# Altium footprint library LQFP-64_7x7x04P.PcbLib: 1 footprints
Each footprint in its own frame and in the unit in brackets; x right, y up, seen from the top. Pads: shape width x height; smd on the part's side, far side on the other; paste and mask are expansions set on the pad; w line width, h text height; cw(c..) or ccw(c..) is an arc to the next point about the centre after c.
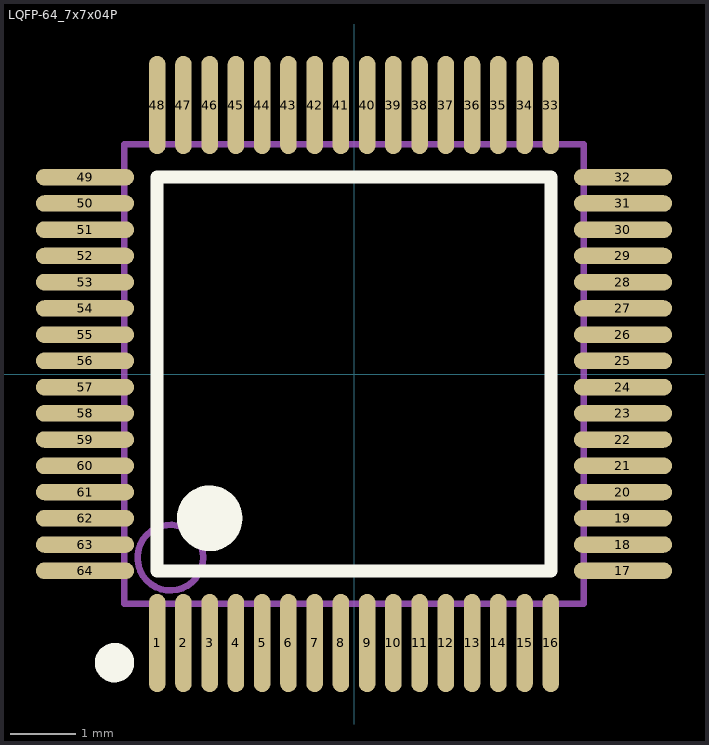
[diagram p0: the footprint, top view; thin cyan lines are the x and y axes]

## LQFP-64_7x7x04P [mm]
pads (64):
  oval 0.25x1.5 smd mask+0.051: 1(-3,-4.1) 2(-2.6,-4.1) 3(-2.2,-4.1) 4(-1.8,-4.1) 5(-1.4,-4.1) 6(-1,-4.1) 7(-0.6,-4.1) 8(-0.2,-4.1) 9(0.2,-4.1) 10(0.6,-4.1) 11(1,-4.1) 12(1.4,-4.1) 13(1.8,-4.1) 14(2.2,-4.1) 15(2.6,-4.1) 16(3,-4.1) 33(3,4.1) 34(2.6,4.1) 35(2.2,4.1) 36(1.8,4.1) 37(1.4,4.1) 38(1,4.1) 39(0.6,4.1) 40(0.2,4.1) 41(-0.2,4.1) 42(-0.6,4.1) 43(-1,4.1) 44(-1.4,4.1) 45(-1.8,4.1) 46(-2.2,4.1) 47(-2.6,4.1) 48(-3,4.1)
  oval 1.5x0.25 smd mask+0.051: 17(4.1,-3) 18(4.1,-2.6) 19(4.1,-2.2) 20(4.1,-1.8) 21(4.1,-1.4) 22(4.1,-1) 23(4.1,-0.6) 24(4.1,-0.2) 25(4.1,0.2) 26(4.1,0.6) 27(4.1,1) 28(4.1,1.4) 29(4.1,1.8) 30(4.1,2.2) 31(4.1,2.6) 32(4.1,3) 49(-4.1,3) 50(-4.1,2.6) 51(-4.1,2.2) 52(-4.1,1.8) 53(-4.1,1.4) 54(-4.1,1) 55(-4.1,0.6) 56(-4.1,0.2) 57(-4.1,-0.2) 58(-4.1,-0.6) 59(-4.1,-1) 60(-4.1,-1.4) 61(-4.1,-1.8) 62(-4.1,-2.2) 63(-4.1,-2.6) 64(-4.1,-3)
Top Overlay:
  circle w0.3: c-3.65,-4.4 r0.15
  circle w0.5: c-2.2,-2.2 r0.25
  lines w0.2: -3,-3 -3,3 3,3 3,-3 -3,-3
Mechanical 13:
  circle w0.1: c-2.8,-2.8 r0.5
  lines w0.1: -3.5,-3.5 -3.5,3.5 3.5,3.5 3.5,-3.5 -3.5,-3.5